# EAGLE library part PIC16F1829 (library jason_eagle6)
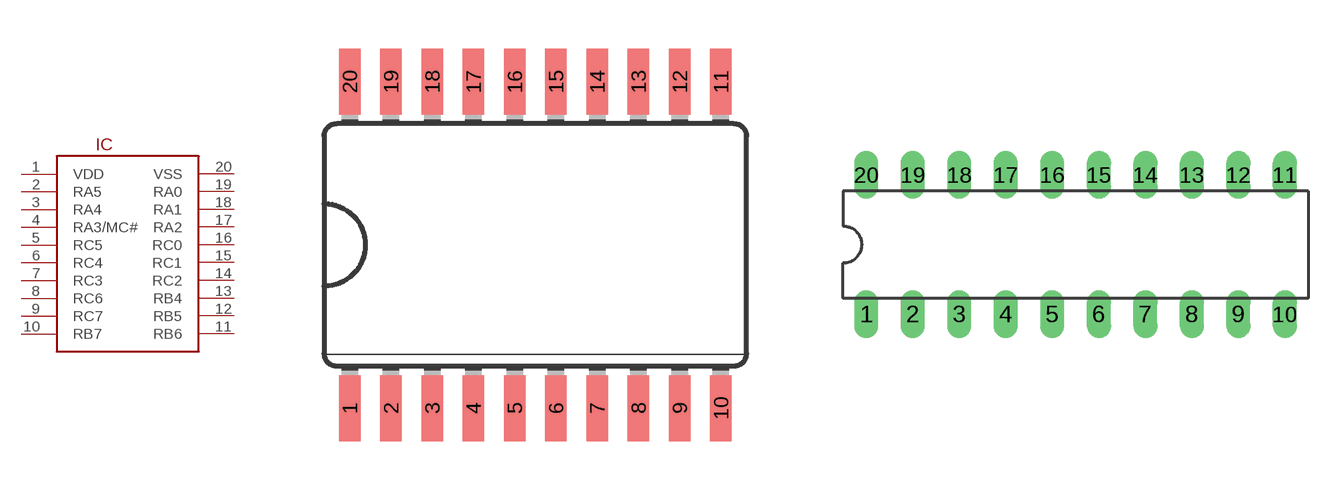
[diagram p20: symbol with the pads of SO20W; footprints SO20W, DIL20]

Designator prefix IC

## PIC16F1829SOIC  [SO20W]
1  VDD  pwr
2  RA5
3  RA4
4  RA3/MC#
5  RC5
6  RC4
7  RC3
8  RC6
9  RC7
10  RB7
11  RB6
12  RB5
13  RB4
14  RC2
15  RC1
16  RC0
17  RA2
18  RA1
19  RA0
20  VSS  pwr

## PIC16F1829  [DIL20]
Pads as for SO20W

## Footprint SO20W (pad centres in mm)
Wide Small Outline package 300 mil
smd 0.66 x 2.032: 1 -5.715,-5.029; 2 -4.445,-5.029; 3 -3.175,-5.029; 4 -1.905,-5.029; 5 -0.635,-5.029; 6 0.635,-5.029; 7 1.905,-5.029; 8 3.175,-5.029; 9 4.445,-5.029; 10 5.715,-5.029; 11 5.715,5.029; 12 4.445,5.029; 13 3.175,5.029; 14 1.905,5.029; 15 0.635,5.029; 16 -0.635,5.029; 17 -1.905,5.029; 18 -3.175,5.029; 19 -4.445,5.029; 20 -5.715,5.029

## Footprint DIL20 (pad centres in mm)
Dual In Line Package
drill 0.813 long: 1 -11.43,-3.81; 2 -8.89,-3.81; 3 -6.35,-3.81; 4 -3.81,-3.81; 5 -1.27,-3.81; 6 1.27,-3.81; 7 3.81,-3.81; 8 6.35,-3.81; 9 8.89,-3.81; 10 11.43,-3.81; 11 11.43,3.81; 12 8.89,3.81; 13 6.35,3.81; 14 3.81,3.81; 15 1.27,3.81; 16 -1.27,3.81; 17 -3.81,3.81; 18 -6.35,3.81; 19 -8.89,3.81; 20 -11.43,3.81